# EAGLE library part BL-CTRL_V1.2 (library HElicopterLib)
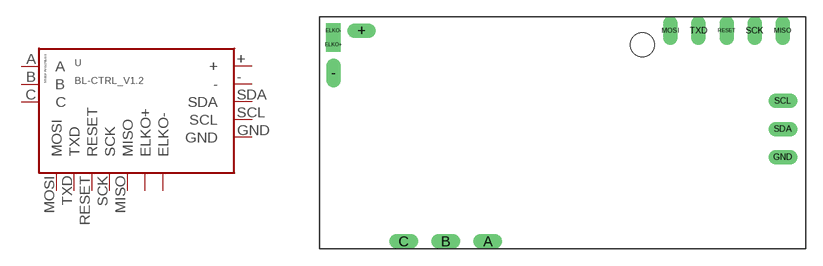
[diagram p4: symbol with the pads of BL-CTRL_V1.2; footprint BL-CTRL_V1.2]

Designator prefix -

## BL-CTRL_V1.2  [BL-CTRL_V1.2]
+  +  pwr
-  -  pwr
A  A
B  B
C  C
ELKO+  ELKO+
ELKO-  ELKO-
GND  GND  pwr
MISO  MISO
MOSI  MOSI
RESET  RESET
SCK  SCK
SCL  SCL
SDA  SDA
TXD  TXD

## Footprint BL-CTRL_V1.2 (pad centres in mm)
drill 0.8 long: + 3.81,-1.27; - 1.27,-5.08; A 15.24,-20.32; B 11.43,-20.32; C 7.62,-20.32; GND 41.91,-12.7; MISO 41.91,-1.27; MOSI 31.75,-1.27; RESET 36.83,-1.27; SCK 39.37,-1.27; SCL 41.91,-7.62; SDA 41.91,-10.16; TXD 34.29,-1.27
drill 0.8 square: ELKO+ 1.27,-2.54; ELKO- 1.27,-1.27
hole 2.2 at 29.21,-2.54